# Altium footprint library RT8209.PcbLib: 1 footprints
Each footprint in its own frame and in the unit in brackets; x right, y up, seen from the top. Pads: shape width x height; smd on the part's side, far side on the other; paste and mask are expansions set on the pad; w line width, h text height; cw(c..) or ccw(c..) is an arc to the next point about the centre after c.
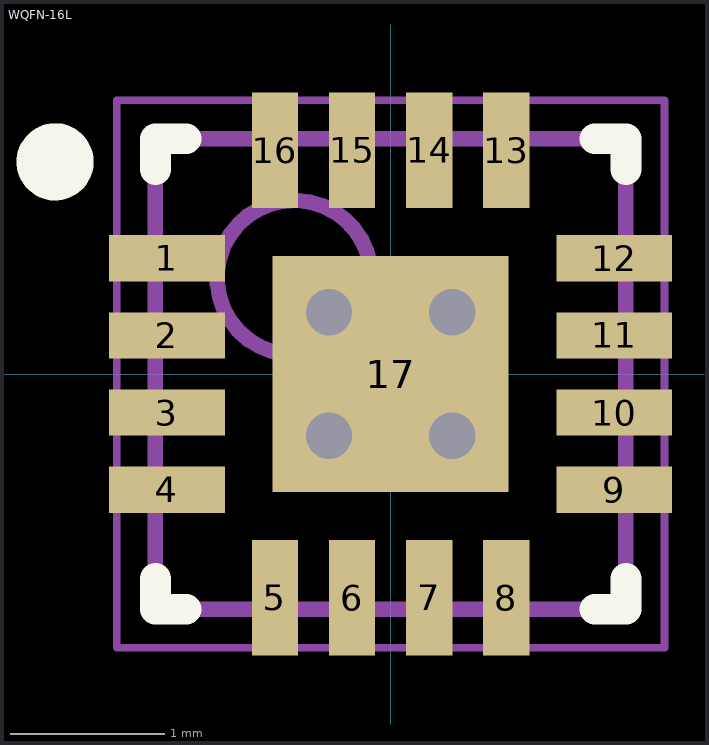
[diagram p0: the footprint, top view; thin cyan lines are the x and y axes]

## WQFN-16L [mm] "WQFN, 16-Leads, Body 3.00x3.00mm, Pitch 0.50mm, Thermal Pad 1.53x1.53mm, IPC Medium Density"
height 0.8
pads (17):
  rect 0.75x0.3 smd: 1(-1.45,0.75) 2(-1.45,0.25) 3(-1.45,-0.25) 4(-1.45,-0.75) 9(1.45,-0.75) 10(1.45,-0.25) 11(1.45,0.25) 12(1.45,0.75)
  rect 0.3x0.75 smd: 5(-0.75,-1.45) 6(-0.25,-1.45) 7(0.25,-1.45) 8(0.75,-1.45) 13(0.75,1.45) 14(0.25,1.45) 15(-0.25,1.45) 16(-0.75,1.45)
  rect 1.53x1.53 smd: 17(0,0)
via 0.4,0.4 diameter 0.6 hole 0.3
via 0.4,-0.4 diameter 0.6 hole 0.3
via -0.4,-0.4 diameter 0.6 hole 0.3
via -0.4,0.4 diameter 0.6 hole 0.3
Top Overlay:
  circle w0.25: c-2.175,1.375 r0.125
  lines w0.2: -1.525,-1.325 -1.525,-1.525 -1.325,-1.525 ; -1.525,1.325 -1.525,1.525 -1.325,1.525 ; 1.325,-1.525 1.525,-1.525 1.525,-1.325 ; 1.325,1.525 1.525,1.525 1.525,1.325
Mechanical 13:
  circle w0.1: c-0.625,0.625 r0.5
  lines w0.1: -1.525,-1.525 -1.525,1.525 1.525,1.525 1.525,-1.525 -1.525,-1.525
Mechanical 15:
  lines w0.05: -1.775,-1.775 -1.775,1.775 1.775,1.775 1.775,-1.775 -1.775,-1.775
  lines w0.1: -0.5,0 0.5,0 ; 0,-0.5 0,0.5
3D body "PQFN50P300X300X80_HS-17N.step": height 0.8, standoff 0, extent -1.525,-1.525 1.525,1.525